# EAGLE library part FM25* (library icarus_sensors)
SPI Serial NVRAM
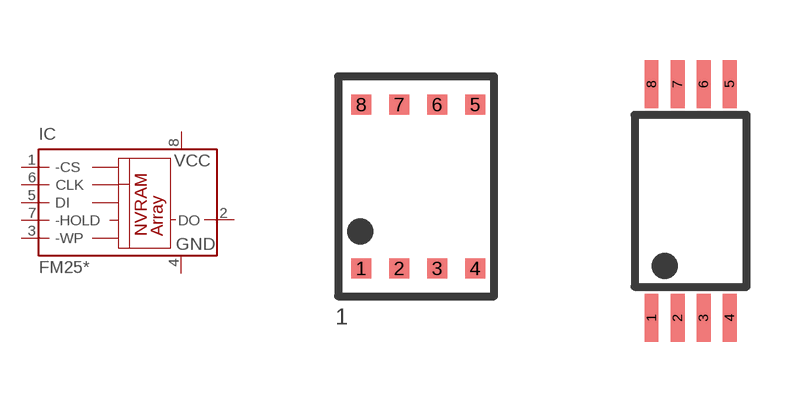
[diagram p6: symbol with the pads of DFN-8; footprints DFN-8, TSSOP8]

Designator prefix IC

## FM25-DFN  [DFN-8]
1  -CS  in
2  DO  out
3  -WP  in
4  GND  pwr
5  DI  in
6  CLK  in
7  -HOLD  in
8  VCC  pwr

## FM25-DG  [TSSOP8]
Pads as for DFN-8

## FM25-S  [SO8]
Pads as for DFN-8

## FM25-TDFN  [TDFN-8]
Pads as for DFN-8

## Footprint DFN-8 (pad centres in mm)
DFN-8 4 x 4.5 mm body 0.95mm pitch 0.5 x 0.5mm pads
smd 0.5 x 0.5: 1 -1.425,-2.05; 2 -0.475,-2.05; 3 0.475,-2.05; 4 1.425,-2.05; 5 1.425,2.05; 6 0.475,2.05; 7 -0.475,2.05; 8 -1.425,2.05

## Footprint TSSOP8 (pad centres in mm)
TSSOP 8 pin type ST pitch 0.65mm pin width 1mm Body 2.5 x 6,4mm
smd 0.35 x 1.2: 1 -0.975,-2.925; 2 -0.325,-2.925; 3 0.325,-2.925; 4 0.975,-2.925; 5 0.975,2.925; 6 0.325,2.925; 7 -0.325,2.925; 8 -0.975,2.925

## Footprint SO8 (pad centres in mm)
SO8 narrow body (4mm wide)
smd 0.61 x 1.524: 1 -1.27,-2.743; 2 0,-2.743; 3 1.27,-2.743; 4 2.54,-2.743; 5 2.54,2.743; 6 1.27,2.743; 7 0,2.743; 8 -1.27,2.743

## Footprint TDFN-8 (pad centres in mm)
TDFN-8 5 x 6 mm body 1.27mm pitch 0.8 x 1mm pads
smd 0.8 x 1: 1 -1.905,-2.8; 2 -0.635,-2.8; 3 0.635,-2.8; 4 1.905,-2.8; 5 1.905,2.8; 6 0.635,2.8; 7 -0.635,2.8; 8 -1.905,2.8